# Altium footprint library Airpurity.PcbLib: 10 footprints
Each footprint in its own frame and in the unit in brackets; x right, y up, seen from the top. Pads: shape width x height; smd on the part's side, far side on the other; paste and mask are expansions set on the pad; w line width, h text height; cw(c..) or ccw(c..) is an arc to the next point about the centre after c.
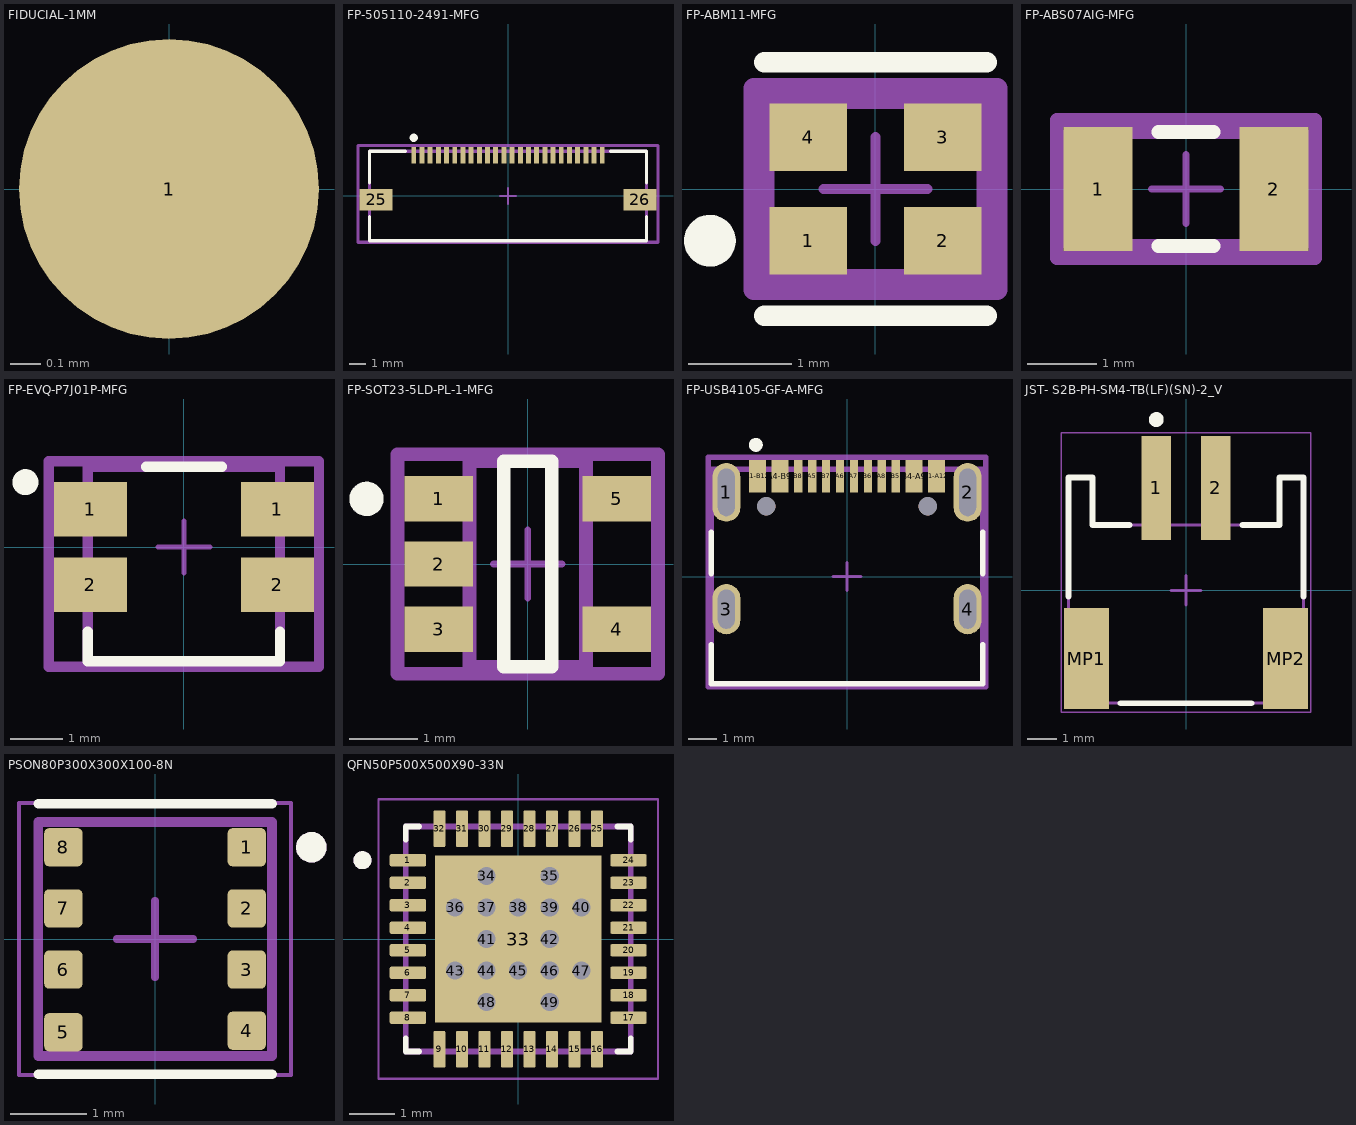
[diagram p0: the footprints below, top view; thin cyan lines are the x and y axes]

## FIDUCIAL-1MM [mm] "1MM FIDUCAL MARKER"
pads (1):
  round 1 smd paste+0 mask+0.5: 1(0,0)

## FP-505110-2491-MFG [mm]
pads (26):
  rect 0.3x1 smd paste+0 mask+0: 1(-5.75,2.475) 2(-5.25,2.475) 3(-4.75,2.475) 4(-4.25,2.475) 5(-3.75,2.475) 6(-3.25,2.475) 7(-2.75,2.475) 8(-2.25,2.475) 9(-1.75,2.475) 10(-1.25,2.475) 11(-0.75,2.475) 12(-0.25,2.475) 13(0.25,2.475) 14(0.75,2.475) 15(1.25,2.475) 16(1.75,2.475) 17(2.25,2.475) 18(2.75,2.475) 19(3.25,2.475) 20(3.75,2.475) 21(4.25,2.475) 22(4.75,2.475) 23(5.25,2.475) 24(5.75,2.475)
  rect 2x1.3 smd paste+0 mask+0: 25(-8.05,-0.225) 26(8.05,-0.225)
Top Overlay:
  circle w0.25: c-5.75,3.55 r0.125
  lines w0.2: -8.45,-1.25 -8.45,-2.725 8.45,-2.725 8.45,-1.25 ; -8.45,0.8 -8.45,2.725 -6.275,2.725 ; 6.275,2.725 8.45,2.725 8.45,0.8
Top Assembly:
  lines w0.2: -9.15,-2.825 -9.15,3.075 9.15,3.075 9.15,-2.825 -9.15,-2.825
  text ".Designator" at 0,0.125 h1
Top 3D Body:
  lines w0.2: -8.45,-2.725 -8.45,2.725 8.45,2.725 8.45,-2.725 -8.45,-2.725
Top Courtyard:
  lines w0.2: -9.15,-2.825 -9.15,3.075 9.15,3.075 9.15,-2.825 -9.15,-2.825
Top Component Center:
  lines w0.1: -0.5,0 0.5,0 ; 0,-0.5 0,0.5
3D body "Conn_Molex_505110-2491_eec.STEP": height 0.25, standoff 0, extent -9.15,-2.825 9.15,3.075

## FP-ABM11-MFG [mm]
pads (4):
  rect 0.75x0.65 smd paste+0 mask+0: 1(-0.65,-0.5) 2(0.65,-0.5) 3(0.65,0.5) 4(-0.65,0.5)
Top Overlay:
  circle w0.25: c-1.6,-0.5 r0.125
  lines w0.2: -1.075,-1.225 1.075,-1.225 ; -1.075,1.225 1.075,1.225
Top Assembly:
  lines w0.2: -1.175,-0.975 1.175,-0.975 1.175,0.975 -1.175,0.975 -1.175,-0.975
  text ".Designator" at 0,0.188 h1
Top 3D Body:
  lines w0.2: -1.075,-0.875 1.075,-0.875 1.075,0.875 -1.075,0.875 -1.075,-0.875
Top Courtyard:
  lines w0.2: -1.175,-0.975 1.175,-0.975 1.175,0.975 -1.175,0.975 -1.175,-0.975
Top Component Center:
  lines w0.1: -0.5,0 0.5,0 ; 0,-0.5 0,0.5
3D body "Crys_Abracon_ABM11-44_000MHZ-B7G-T_eec.STEP": height 0.25, standoff 0, extent -1.175,-0.975 1.175,0.975

## FP-ABS07AIG-MFG [mm]
pads (2):
  rect 1x1.8 smd paste+0 mask+0: 1(-1.275,0) 2(1.275,0)
Top Overlay:
  lines w0.2: -0.4,-0.825 0.4,-0.825 ; -0.4,0.825 0.4,0.825
Top Assembly:
  lines w0.2: -1.875,-1 -1.875,1 1.875,1 1.875,-1 -1.875,-1
  text ".Designator" at 0,0.188 h1
Top 3D Body:
  lines w0.2: -1.675,-0.825 -1.675,0.825 1.675,0.825 1.675,-0.825 -1.675,-0.825
Top Courtyard:
  lines w0.2: -1.875,-1 -1.875,1 1.875,1 1.875,-1 -1.875,-1
Top Component Center:
  lines w0.1: -0.5,0 0.5,0 ; 0,-0.5 0,0.5
3D body "Crys_Abracon_ABS07AIG-32_768KHZ-9-1-T_eec.STEP": height 0.25, standoff 0, extent -1.875,-1 1.875,1

## FP-EVQ-P7J01P-MFG [mm]
pads (4):
  rect 1.4x1.05 smd paste+0 mask+0: 1(-1.8,0.725) 1(1.8,0.725) 2(-1.8,-0.725) 2(1.8,-0.725)
Top Overlay:
  circle w0.25: c-3.05,1.25 r0.125
  lines w0.2: -1.85,-1.625 -1.85,-2.2 1.85,-2.2 1.85,-1.625 ; -0.725,1.55 0.725,1.55
Top Assembly:
  lines w0.2: -2.6,-2.3 2.6,-2.3 2.6,1.65 -2.6,1.65 -2.6,-2.3
  text ".Designator" at 0,-0.137 h1
Top 3D Body:
  lines w0.2: -1.85,-2.2 1.85,-2.2 1.85,1.55 -1.85,1.55 -1.85,-2.2
Top Courtyard:
  lines w0.2: -2.6,-2.3 2.6,-2.3 2.6,1.65 -2.6,1.65 -2.6,-2.3
Top Component Center:
  lines w0.1: -0.5,0 0.5,0 ; 0,-0.5 0,0.5
3D body "Switch_Panasonic_EVQ-P7J01P_eec.STEP": height 0.25, standoff 0, extent -2.6,-2.3 2.6,1.65

## FP-SOT23-5LD-PL-1-MFG [mm]
pads (5):
  rect 1x0.66 smd paste+0 mask+0: 1(-1.3,0.95) 2(-1.3,0) 3(-1.3,-0.95) 4(1.3,-0.95) 5(1.3,0.95)
Top Overlay:
  circle w0.25: c-2.35,0.95 r0.125
  lines w0.2: -0.35,-1.5 0.35,-1.5 0.35,1.5 -0.35,1.5 -0.35,-1.5
Top Assembly:
  lines w0.2: -1.9,-1.6 1.9,-1.6 1.9,1.6 -1.9,1.6 -1.9,-1.6
  text ".Designator" at 0,0.188 h1
Top 3D Body:
  lines w0.2: -0.85,-1.5 0.85,-1.5 0.85,1.5 -0.85,1.5 -0.85,-1.5
Top Courtyard:
  lines w0.2: -1.9,-1.6 1.9,-1.6 1.9,1.6 -1.9,1.6 -1.9,-1.6
Top Component Center:
  lines w0.1: -0.5,0 0.5,0 ; 0,-0.5 0,0.5
3D body "IC_Microchip_MIC7300YM5-TR_eec.STEP": height 0.25, standoff 0, extent -1.9,-1.6 1.9,1.6

## FP-USB4105-GF-A-MFG [mm]
pads (18):
  rrect100% 1x2.1 hole 1.7 slot 0.6 at 0 deg paste-2539.97 mask+0: 1(-4.32,3.015) 2(4.32,3.015)
  rrect100% 1x1.8 hole 1.4 slot 0.6 at 0 deg paste-2539.97 mask+0: 3(-4.32,-1.165) 4(4.32,-1.165)
  rect 0.6x1.15 smd paste+0 mask+0: A1-B12(-3.2,3.59) A4-B9(-2.4,3.59) B1-A12(3.2,3.59) B4-A9(2.4,3.59)
  rect 0.3x1.15 smd paste+0 mask+0: A5(-1.25,3.59) A6(-0.25,3.59) A7(0.25,3.59) A8(1.25,3.59) B5(1.75,3.59) B6(0.75,3.59) B7(-0.75,3.59) B8(-1.75,3.59)
  round 0.65 hole 0.65 unplated paste-2539.97 mask+0: ""(-2.89,2.515) ""(2.89,2.515)
Top Overlay:
  circle w0.25: c-3.265,4.715 r0.125
  lines w0.2: -4.865,-2.44 -4.865,-3.84 4.865,-3.84 4.865,-2.44 ; -4.865,0.11 -4.865,1.59 ; 4.865,0.11 4.865,1.59
Top Assembly:
  lines w0.2: -4.965,-3.94 4.965,-3.94 4.965,4.265 -4.965,4.265 -4.965,-3.94
  text ".Designator" at 0,0.35 h1
Top 3D Body:
  lines w0.2: -4.865,-3.84 4.865,-3.84 4.865,3.84 -4.865,3.84 -4.865,-3.84
Top Courtyard:
  lines w0.2: -4.965,-3.94 4.965,-3.94 4.965,4.265 -4.965,4.265 -4.965,-3.94
Top Component Center:
  lines w0.1: -0.5,0 0.5,0 ; 0,-0.5 0,0.5
3D body "Conn_GCT_USB4105-GF-A_eec.STEP": height 0.25, standoff 0, extent -4.965,-3.94 4.965,4.265

## JST- S2B-PH-SM4-TB(LF)(SN)-2_V [mm] "SMD, 2-Leads, Body 7.9x7.6mm, Pitch 2mm"
height 5.5
pads (4):
  rect 1x3.5 smd: 1(-1,3.45) 2(1,3.45)
  rect 1.5x3.4 smd: MP1(-3.35,-2.3) MP2(3.35,-2.3)
Top Overlay:
  circle w0.25: c-1,5.75 r0.125
  lines w0.2: -3.95,-0.2 -3.95,3.8 -3.15,3.8 -3.15,2.2 -1.9,2.2 ; -2.2,-3.8 2.2,-3.8 ; 1.9,2.2 3.15,2.2 3.15,3.8 3.95,3.8 3.95,-0.2
Top 3D Body:
  lines w0.1: -3.95,-3 -3.95,3.8 -3.15,3.8 -3.15,2.2 3.15,2.2 3.15,3.8 3.95,3.8 3.95,-3 3.45,-3 3.45,-3.8 -3.45,-3.8 -3.45,-3 -3.95,-3
Top Courtyard:
  lines w0.05: -4.2,-4.1 4.2,-4.1 4.2,5.3 -4.2,5.3 -4.2,-4.1
  lines w0.1: -0.5,0 0.5,0 ; 0,-0.5 0,0.5
3D body "S2B-PH-SM4-TB(LF)(SN)--3DModel-STEP-56544.STEP": height 5.6, standoff 0, extent -3.95,-3.8 3.95,4.8

## PSON80P300X300X100-8N [mm]
height 1
pads (8):
  rrect25% 0.5x0.5 smd: 1(1.2,1.2) 2(1.2,0.4) 3(1.2,-0.4) 4(1.2,-1.2) 5(-1.2,-1.22) 6(-1.2,-0.4) 7(-1.2,0.4) 8(-1.2,1.2)
Top Overlay:
  circle w0.2: c2.045,1.2 r0.1
  lines w0.127: -1.53,-1.77 1.53,-1.77 ; -1.53,1.77 1.53,1.77
Top Assembly:
  text ".Designator" at -2.286,2.474 h1
Top 3D Body:
  circle w0.2: c2.045,1.2 r0.1
  lines w0.127: -1.53,-1.53 1.53,-1.53 1.53,1.53 -1.53,1.53 -1.53,-1.53
Top Courtyard:
  lines w0.05: -1.78,-1.78 -1.78,1.78 1.78,1.78 1.78,-1.78 -1.78,-1.78
Top Component Center:
  lines w0.1: -0.5,0 0.5,0 ; 0,-0.5 0,0.5
3D body "BME680.step": height 0.93, standoff -0.01, extent -1.5,-1.5 1.5,1.5

## QFN50P500X500X90-33N [mm]
pads (49):
  rrect25% 0.81x0.27 smd: 1(-2.45,1.75) 2(-2.45,1.25) 3(-2.45,0.75) 4(-2.45,0.25) 5(-2.45,-0.25) 6(-2.45,-0.75) 7(-2.45,-1.25) 8(-2.45,-1.75) 17(2.45,-1.75) 18(2.45,-1.25) 19(2.45,-0.75) 20(2.45,-0.25) 21(2.45,0.25) 22(2.45,0.75) 23(2.45,1.25) 24(2.45,1.75)
  rrect25% 0.27x0.81 smd: 9(-1.75,-2.45) 10(-1.25,-2.45) 11(-0.75,-2.45) 12(-0.25,-2.45) 13(0.25,-2.45) 14(0.75,-2.45) 15(1.25,-2.45) 16(1.75,-2.45) 25(1.75,2.45) 26(1.25,2.45) 27(0.75,2.45) 28(0.25,2.45) 29(-0.25,2.45) 30(-0.75,2.45) 31(-1.25,2.45) 32(-1.75,2.45)
  rect 3.7x3.7 smd paste-1.4: 33(0,0)
  round 0.5 hole 0.4 mask+0: 34(-0.7,1.4) 35(0.7,1.4) 36(-1.4,0.7) 37(-0.7,0.7) 38(0,0.7) 39(0.7,0.7) 40(1.4,0.7) 41(-0.7,0) 42(0.7,0) 43(-1.4,-0.7) 44(-0.7,-0.7) 45(0,-0.7) 46(0.7,-0.7) 47(1.4,-0.7) 48(-0.7,-1.4) 49(0.7,-1.4)
Top Overlay:
  circle w0.2: c-3.46,1.75 r0.1
  lines w0.127: -2.5,-2.205 -2.5,-2.5 -2.205,-2.5 ; -2.5,2.205 -2.5,2.5 -2.205,2.5 ; 2.205,-2.5 2.5,-2.5 2.5,-2.205 ; 2.205,2.5 2.5,2.5 2.5,2.205
Top Paste:
  region: 0.45,0.95 -0.45,0.95 -0.45,1.85 0.45,1.85
  region: 1.85,0.95 0.95,0.95 0.95,1.85 1.85,1.85
  region: 1.85,-1.85 0.95,-1.85 0.95,-0.95 1.85,-0.95
  region: 1.85,-0.45 0.95,-0.45 0.95,0.45 1.85,0.45
  region: -0.95,-0.45 -1.85,-0.45 -1.85,0.45 -0.95,0.45
  region: -0.95,0.95 -1.85,0.95 -1.85,1.85 -0.95,1.85
  region: -0.95,-1.85 -1.85,-1.85 -1.85,-0.95 -0.95,-0.95
  region: 0.45,-1.85 -0.45,-1.85 -0.45,-0.95 0.45,-0.95
Top 3D Body:
  circle w0.2: c-3.46,1.75 r0.1
  lines w0.127: -2.5,-2.5 2.5,-2.5 2.5,2.5 -2.5,2.5 -2.5,-2.5
Top Courtyard:
  lines w0.05: -3.105,-3.105 3.105,-3.105 3.105,3.105 -3.105,3.105 -3.105,-3.105
3D body "ESP32-C3-SOC.STEP": height 0.87, standoff 0, extent -2.501,-2.501 2.501,2.501